# EAGLE library part TPL0401A-10QDCKRQ1 (library TPL0401A-10QDCKRQ1)
Automotive 128-Taps Single-Channel Digital Potentiometer With I2C Interface Source: Datasheet <http://www.ti.com/lit/gpn/tpl0401a-10-q1>
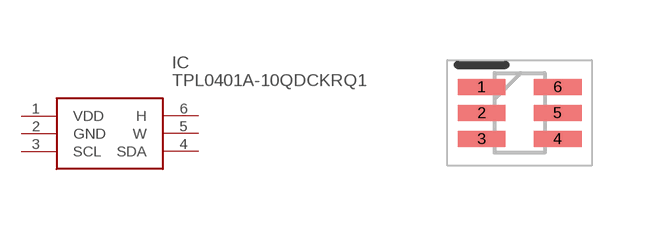
[diagram p0: symbol with the pads of SOT65P210X110-6N; footprint SOT65P210X110-6N]

Designator prefix IC

## TPL0401A-10QDCKRQ1 (Description: Automotive 128-Taps Single-Channel Digital Potentiometer With I2C Interface; Height: 1.1mm; Manufacturer_Name: Texas Instruments; Manufacturer_Part_Number: TPL0401A-10QDCKRQ1; Mouser_Part_Number: 595-PL0401A10QDCKRQ1; Mouser_Price-Stock: https://www.mouser.co.uk/ProductDetail/Texas-Instruments/TPL0401A-10QDCKRQ1?qs=34RfhUjJmKcWn7b6vRygjg%3D%3D)  [SOT65P210X110-6N]
1  VDD
2  GND
3  SCL
4  SDA
5  W
6  H

## Footprint SOT65P210X110-6N (pad centres in mm)
dck_6
smd 1.2 x 0.4: 1 -0.95,0.65; 2 -0.95,0; 3 -0.95,-0.65; 4 0.95,-0.65; 5 0.95,0; 6 0.95,0.65